# EAGLE library part 505575-06 (library MOLEX)
Molex 505575-06 6 Position 2.00mm pitch connector wire to board connector Datasheet <https://www.molex.com/pdm_docs/sd/5055750271_sd.pdf>
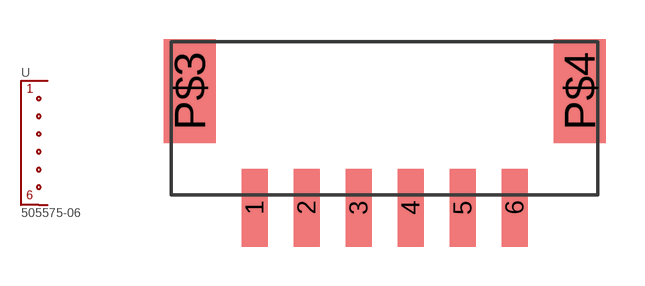
[diagram p0: symbol with the pads of 505575-06; footprint 505575-06]

Designator prefix -

## 505575-06  [505575-06]
1  1
2  2
3  3
4  4
5  5
6  6

## Footprint 505575-06 (pad centres in mm)
Molex 505575-06
smd 1 x 3: 1 -5,-0.5; 2 -3,-0.5; 3 -1,-0.5; 4 1,-0.5; 5 3,-0.5; 6 5,-0.5
smd 2 x 4: P$3 -7.5,4; P$4 7.5,4